# EAGLE library part G6KU-2F-Y-TR_DC4.5 (library G6KU-2F-Y-TR_DC4.5)
Low Signal Relays - PCB Gullwing 1Coil 3.2mm DPDT 4.5DC 100mW T/R Source: Datasheet <https://omronfs.omron.com/en_US/ecb/products/pdf/en-g6k.pdf>
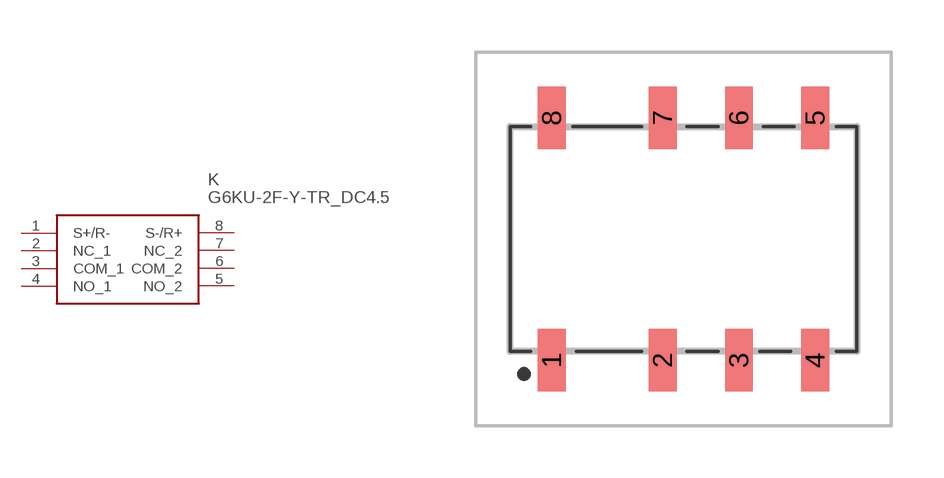
[diagram p0: symbol with the pads of G6KU2FYDC5; footprint G6KU2FYDC5]

Designator prefix K

## G6KU-2F-Y-TR_DC4.5 (Description: Low Signal Relays - PCB Gullwing 1Coil 3.2mm DPDT 4.5DC 100mW T/R; Height: 5.4mm; Manufacturer_Name: Omron Electronics; Manufacturer_Part_Number: G6KU-2F-Y-TR DC4.5; Mouser_Part_Number: 653-G6KU-2F-Y-TRDC45; Mouser_Price-Stock: https://www.mouser.co.uk/ProductDetail/Omron-Electronics/G6KU-2F-Y-TR-DC4.5?qs=PlsTXiR3SnhH9LP1W77cDg%3D%3D)  [G6KU2FYDC5]
1  S+/R-
2  NC_1
3  COM_1
4  NO_1
5  NO_2
6  COM_2
7  NC_2
8  S-/R+

## Footprint G6KU2FYDC5 (pad centres in mm)
G6KU-2F-Y DC5-2
smd 0.8 x 1.8: 1 -3.8,-3.5; 2 -0.6,-3.5; 3 1.6,-3.5; 4 3.8,-3.5; 5 3.8,3.5; 6 1.6,3.5; 7 -0.6,3.5; 8 -3.8,3.5